# Altium footprint library 59170-1-S-00-D.PcbLib: 1 footprints
Each footprint in its own frame and in the unit in brackets; x right, y up, seen from the top. Pads: shape width x height; smd on the part's side, far side on the other; paste and mask are expansions set on the pad; w line width, h text height; cw(c..) or ccw(c..) is an arc to the next point about the centre after c.
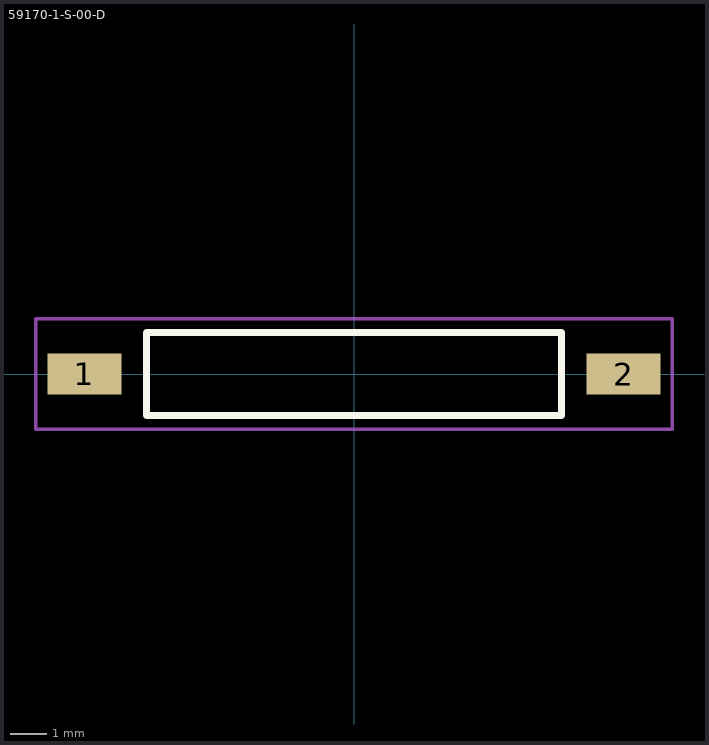
[diagram p0: the footprint, top view; thin cyan lines are the x and y axes]

## 59170-1-S-00-D [mm]
pads (2):
  rect 2.03x1.14 smd: 1(-7.425,0) 2(7.425,0)
Top Overlay:
  lines w0.2: -5.715,-1.145 5.715,-1.145 5.715,1.145 -5.715,1.145 -5.715,-1.145
Top Courtyard:
  lines w0.1: -8.763,-1.524 -8.763,1.524 8.763,1.524 8.763,-1.524 -8.763,-1.524 ; -5.715,-1.145 5.715,-1.145 5.715,1.145 -5.715,1.145 -5.715,-1.145
3D body "59170-1-S-00-D.stp": height 2.44, standoff 0, extent -8.125,-1.145 8.125,1.145